# Altium schematic symbol library 19R107C.SchLib: 1 symbol
Pins are listed as number, name and electrical type; pins without a type are passive.

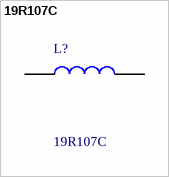
[diagram p0: symbol 19R107C]

## 19R107C
designator L?
Murata 100000 uH +/-10% Leaded Inductor, 70mA Idc, 90 Rdc 1900R; Manufacturer_Name: Murata Electronics; Geometry.Height: 21mm; Mouser Part Number: 580-19R107C; Mouser Price/Stock: https://www.mouser.co.uk/ProductDetail/Murata-Power-Solutions/19R107C?qs=RzyoSnN9rS0xiJ%2FHdjpJMw%3D%3D; Manufacturer_Part_Number: 19R107C; Datasheet Link: https://componentsearchengine.com/Datasheets/1/19R107C.pdf
footprint CAPPRD600W90D1200H2100
pins: 1 +, 2 -